# Altium footprint library 主控PCB封装库.PcbLib: 2 footprints
Each footprint in its own frame and in the unit in brackets; x right, y up, seen from the top. Pads: shape width x height; smd on the part's side, far side on the other; paste and mask are expansions set on the pad; w line width, h text height; cw(c..) or ccw(c..) is an arc to the next point about the centre after c.
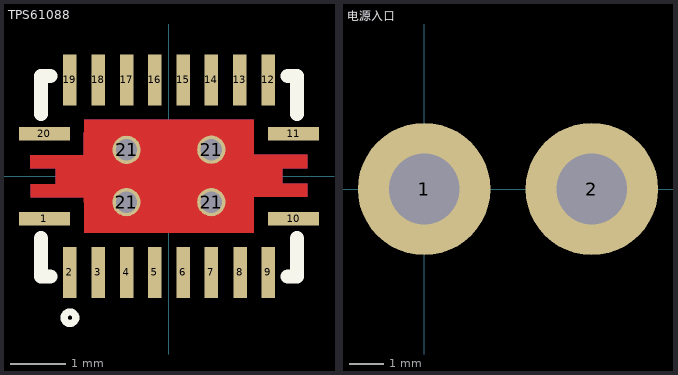
[diagram p0: the footprints below, top view; thin cyan lines are the x and y axes]

## TPS61088 [mil]
pads (25):
  rect 36x9.6 smd: 1(-87.92,-30.02) 10(88.08,-30.02) 11(88.08,29.98) 20(-87.92,29.98)
  rect 9.6x36 smd: 2(-69.92,-68.02) 3(-49.92,-68.02) 4(-29.92,-68.02) 5(-9.92,-68.02) 6(10.08,-68.02) 7(30.08,-68.02) 8(50.48,-68.02) 9(70.08,-68.02) 12(70.08,67.98) 13(50.08,67.98) 14(30.08,67.98) 15(10.08,67.98) 16(-9.92,67.98) 17(-29.92,67.98) 18(-49.92,67.98) 19(-69.92,67.98)
  round 20 hole 15: 21(-30,-18.37) 21(-29.92,18.61) 21(30,-18.37) 21(30,18.72)
  round 0 smd: 21(0,0)
Top Layer:
  region: -80.02,5.71 -97.83,5.73 -97.83,14.78 -60.19,14.96 -60.08,22.26 -59.79,39.98 60.08,39.98 59.96,22.46 60.08,14.98 97.83,14.98 97.83,5.77 79.94,5.77 80.06,-5.41 97.83,-5.41 97.83,-14.63 59.96,-14.63 60.08,-22.11 60.08,-39.94 -59.92,-40.02 -59.92,-22.34 -60.01,-14.74 -97.68,-14.74 -97.64,-5.65 -79.98,-5.67
Top Overlay:
  circle w5.08: c-69.92,-100.02 r4.1
  lines w10: -90.47,-43.92 -90.47,-70.89 -83.82,-70.89 ; -90.47,43.88 -90.47,70.85 -83.82,70.85 ; 83.98,-70.89 90.63,-70.89 90.63,-43.92 ; 83.98,70.85 90.63,70.85 90.63,43.88
Top Paste:
  region: -80.02,5.71 -97.83,5.73 -97.83,14.78 -60.29,14.96 -60.17,22.26 -59.88,39.98 60.08,39.98 59.96,22.46 60.08,14.98 97.83,14.98 97.83,5.77 79.94,5.77 80.06,-5.41 97.83,-5.41 97.83,-14.63 59.96,-14.63 60.08,-22.11 60.08,-39.94 -59.92,-40.02 -59.92,-22.34 -59.88,-14.74 -97.68,-14.74 -97.64,-5.65 -79.98,-5.67
Mechanical 1:
  cavity: -80.02,5.71 -97.83,5.73 -97.83,14.78 -60.29,14.96 -60.17,22.26 -59.88,39.98 60.08,39.98 59.96,22.46 60.08,14.98 97.83,14.98 97.83,5.77 79.94,5.77 80.06,-5.41 97.83,-5.41 97.83,-14.63 59.96,-14.63 60.08,-22.11 60.08,-39.94 -59.92,-40.02 -59.92,-22.34 -59.88,-14.74 -97.68,-14.74 -97.64,-5.65 -79.98,-5.67
Mechanical 15:
  lines w0.1: -0.92,8.18 1.08,10.18

## 电源入口 [mil]
pads (2):
  round 150 hole 80: 1(0,0) 2(190,0)